# EAGLE library part RFM69-ESP03 (library RemoteHome)
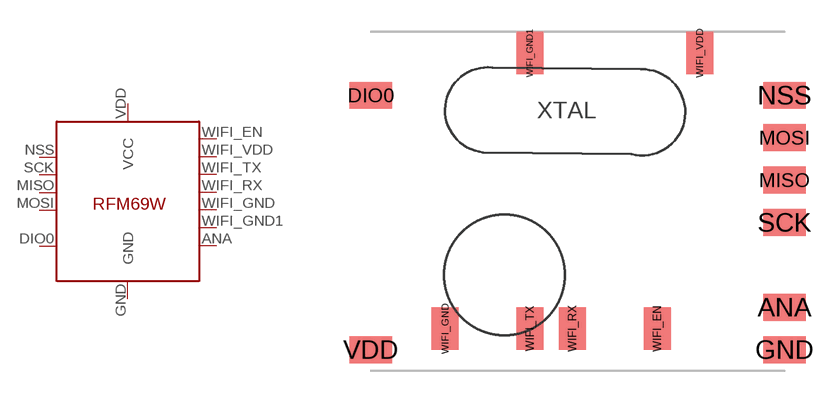
[diagram p2: symbol with the pads of RFM69W-ESP03; footprint RFM69W-ESP03]

Designator prefix -

## RFM69-ESP03  [RFM69W-ESP03]
ANA  ANT  pas
DIO0  DIO0  oc
GND  GND  pwr
MISO  MISO  in
MOSI  MOSI  out
NSS  SEL  in
SCK  SCK  in
VDD  VCC  pwr
WIFI_EN  WIFI_EN  in
WIFI_GND  WIFI_GND  in
WIFI_GND1  WIFI_GND1  in
WIFI_RX  WIFI_RX  in
WIFI_TX  WIFI_TX  in
WIFI_VDD  WIFI_VDD  in

## Footprint RFM69W-ESP03 (pad centres in mm)
smd 2 x 1.27: ANA 8,-5; DIO0 -11.5,5; GND 8,-7; MISO 8,1; MOSI 8,3; NSS 8,5; SCK 8,-1; VDD -11.5,-7
smd 1.27 x 2: WIFI_EN 2,-6; WIFI_GND -8,-6; WIFI_GND1 -4,7; WIFI_RX -2,-6; WIFI_TX -4,-6; WIFI_VDD 4,7